# Altium integrated library T493X106K035AK6120.IntLib: 1 symbol
Pins are listed as number, name and electrical type; pins without a type are passive.

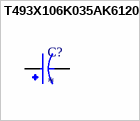
[diagram p0: symbol T493X106K035AK6120]

## T493X106K035AK6120
designator C?
Tantalum Capacitors - Solid SMD T493_COTS, Tantalum, MnO2 Tantalum, COTS, 10 uF, 10%, 35 VDC, SMD, MnO2, Molded, COTS, N/A, 250 mOhms, 7343, Height Max = 4.3mm; MF: Kemet; MP: T493X106K035AK6120; SnapEDA_Link: https://www.snapeda.com/parts/T493X106K035AK6120/Kemet/view-part/?ref=snap; Package: SMD-2 Kemet; Value: *; Check_prices: https://www.snapeda.com/parts/T493X106K035AK6120/Kemet/view-part/?ref=eda
footprint CAPMP7343X430N
pins: 1, 2